# EAGLE library part MCP49X2 (library OrlandoRonMod)
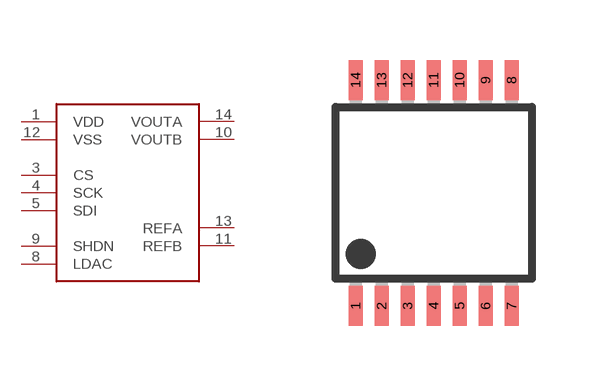
[diagram p22: symbol with the pads of TSSOP14; footprint TSSOP14]

Designator prefix -

## MCP49X2  [TSSOP14]
1  VDD
3  CS
4  SCK
5  SDI
8  LDAC
9  SHDN
10  VOUTB
11  REFB
12  VSS
13  REFA
14  VOUTA

## Footprint TSSOP14 (pad centres in mm)
14-Lead Plastic Thin Shrink Small Outline (ST) - 4.4 mm Body TSSOP Source: http://ww1.microchip.com/downloads/en/DeviceDoc/40039E.pdf
smd 0.35 x 1: 1 -1.95,-2.825; 2 -1.3,-2.825; 3 -0.65,-2.825; 4 0,-2.825; 5 0.65,-2.825; 6 1.3,-2.825; 7 1.95,-2.825; 8 1.95,2.825; 9 1.3,2.825; 10 0.65,2.825; 11 0,2.825; 12 -0.65,2.825; 13 -1.3,2.825; 14 -1.95,2.825